# Altium schematic symbol library 时钟芯片.SchLib: 2 symbols
Pins are listed as number, name and electrical type; pins without a type are passive.

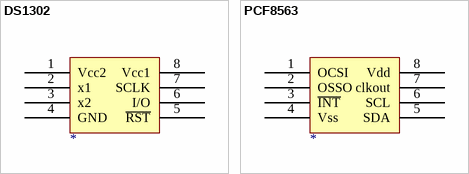
[diagram p0: symbols DS1302 to PCF8563]

## DS1302
designator ?
pins: 1 Vcc2, 2 x1, 3 x2, 4 GND, 5 ~{RST}, 6 I/O, 7 SCLK, 8 Vcc1

## PCF8563
designator ?
pins: 1 OCSI, 2 OSSO, 3 ~{INT}, 4 Vss, 5 SDA, 6 SCL, 7 clkout, 8 Vdd